# Altium schematic symbol library Amplifiers.SchLib: 1 symbol
Pins are listed as number, name and electrical type; pins without a type are passive.

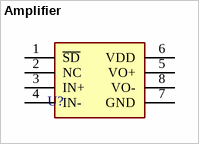
[diagram p0: symbol Amplifier]

## Amplifier
designator U?  (value not drawn)
PAM8302AADCR MEOW
footprint Amplifier
pins: 1 ~{SD}, 2 NC, 3 IN+, 4 IN-, 5 VO+, 6 VDD, 7 GND, 8 VO-